# EAGLE library part EPSON_TOYOCOM_RX8581 (library GP_RFID_LOGGER.6.3)
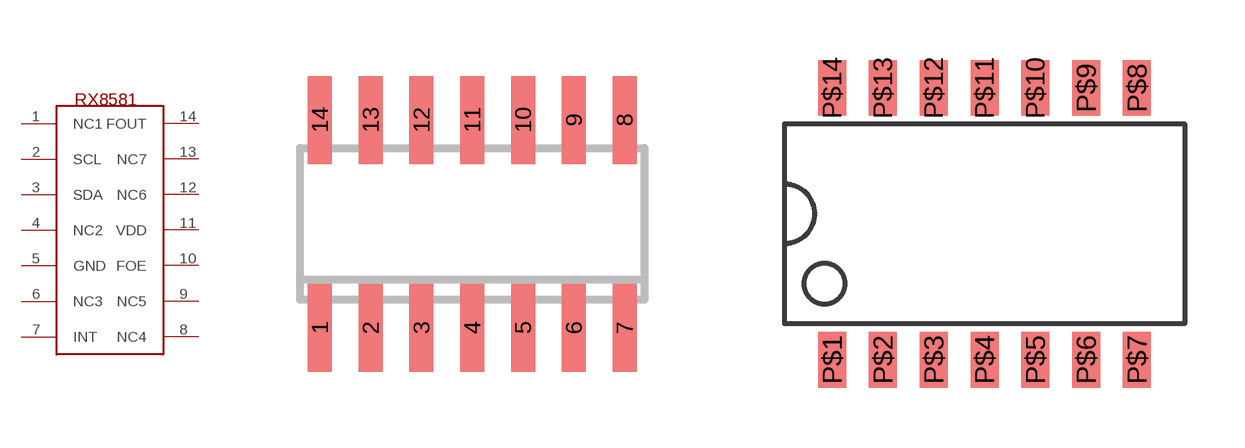
[diagram p0: symbol with the pads of EPSON_TOYOCOM_SO-14; footprints EPSON_TOYOCOM_SO-14, EPSON_TOYOCOM_SO-14_WIDE]

Designator prefix -

## EPSON_TOYOCOM_RX8581  [EPSON_TOYOCOM_SO-14]
1  NC1
2  SCL
3  SDA
4  NC2
5  GND
6  NC3
7  INT
8  NC4
9  NC5
10  FOE
11  VDD
12  NC6
13  NC7
14  FOUT

## EPSON_TOYOCOM_RX8581WIDE  [EPSON_TOYOCOM_SO-14_WIDE]
P$1  NC1
P$2  SCL
P$3  SDA
P$4  NC2
P$5  GND
P$6  NC3
P$7  INT
P$8  NC4
P$9  NC5
P$10  FOE
P$11  VDD
P$12  NC6
P$13  NC7
P$14  FOUT

## Footprint EPSON_TOYOCOM_SO-14 (pad centres in mm)
Small Outline Narrow Plastic Gull Wing 150-mil body, package type SL
smd 0.6 x 2.2: 1 -3.81,-2.6; 2 -2.54,-2.6; 3 -1.27,-2.6; 4 0,-2.6; 5 1.27,-2.6; 6 2.54,-2.6; 7 3.81,-2.6; 8 3.81,2.6; 9 2.54,2.6; 10 1.27,2.6; 11 0,2.6; 12 -1.27,2.6; 13 -2.54,2.6; 14 -3.81,2.6

## Footprint EPSON_TOYOCOM_SO-14_WIDE (pad centres in mm)
smd 0.7 x 1.4: P$1 -3.81,-3.4; P$2 -2.54,-3.4; P$3 -1.27,-3.4; P$4 0,-3.4; P$5 1.27,-3.4; P$6 2.54,-3.4; P$7 3.81,-3.4; P$8 3.81,3.4; P$9 2.54,3.4; P$10 1.27,3.4; P$11 0,3.4; P$12 -1.27,3.4; P$13 -2.54,3.4; P$14 -3.81,3.4